# Altium footprint library APSS Prototype Parts.PcbLib: 96 footprints (part 6 of 6)
Each footprint in its own frame and in the unit in brackets; x right, y up, seen from the top. Pads: shape width x height; smd on the part's side, far side on the other; paste and mask are expansions set on the pad; w line width, h text height; cw(c..) or ccw(c..) is an arc to the next point about the centre after c.
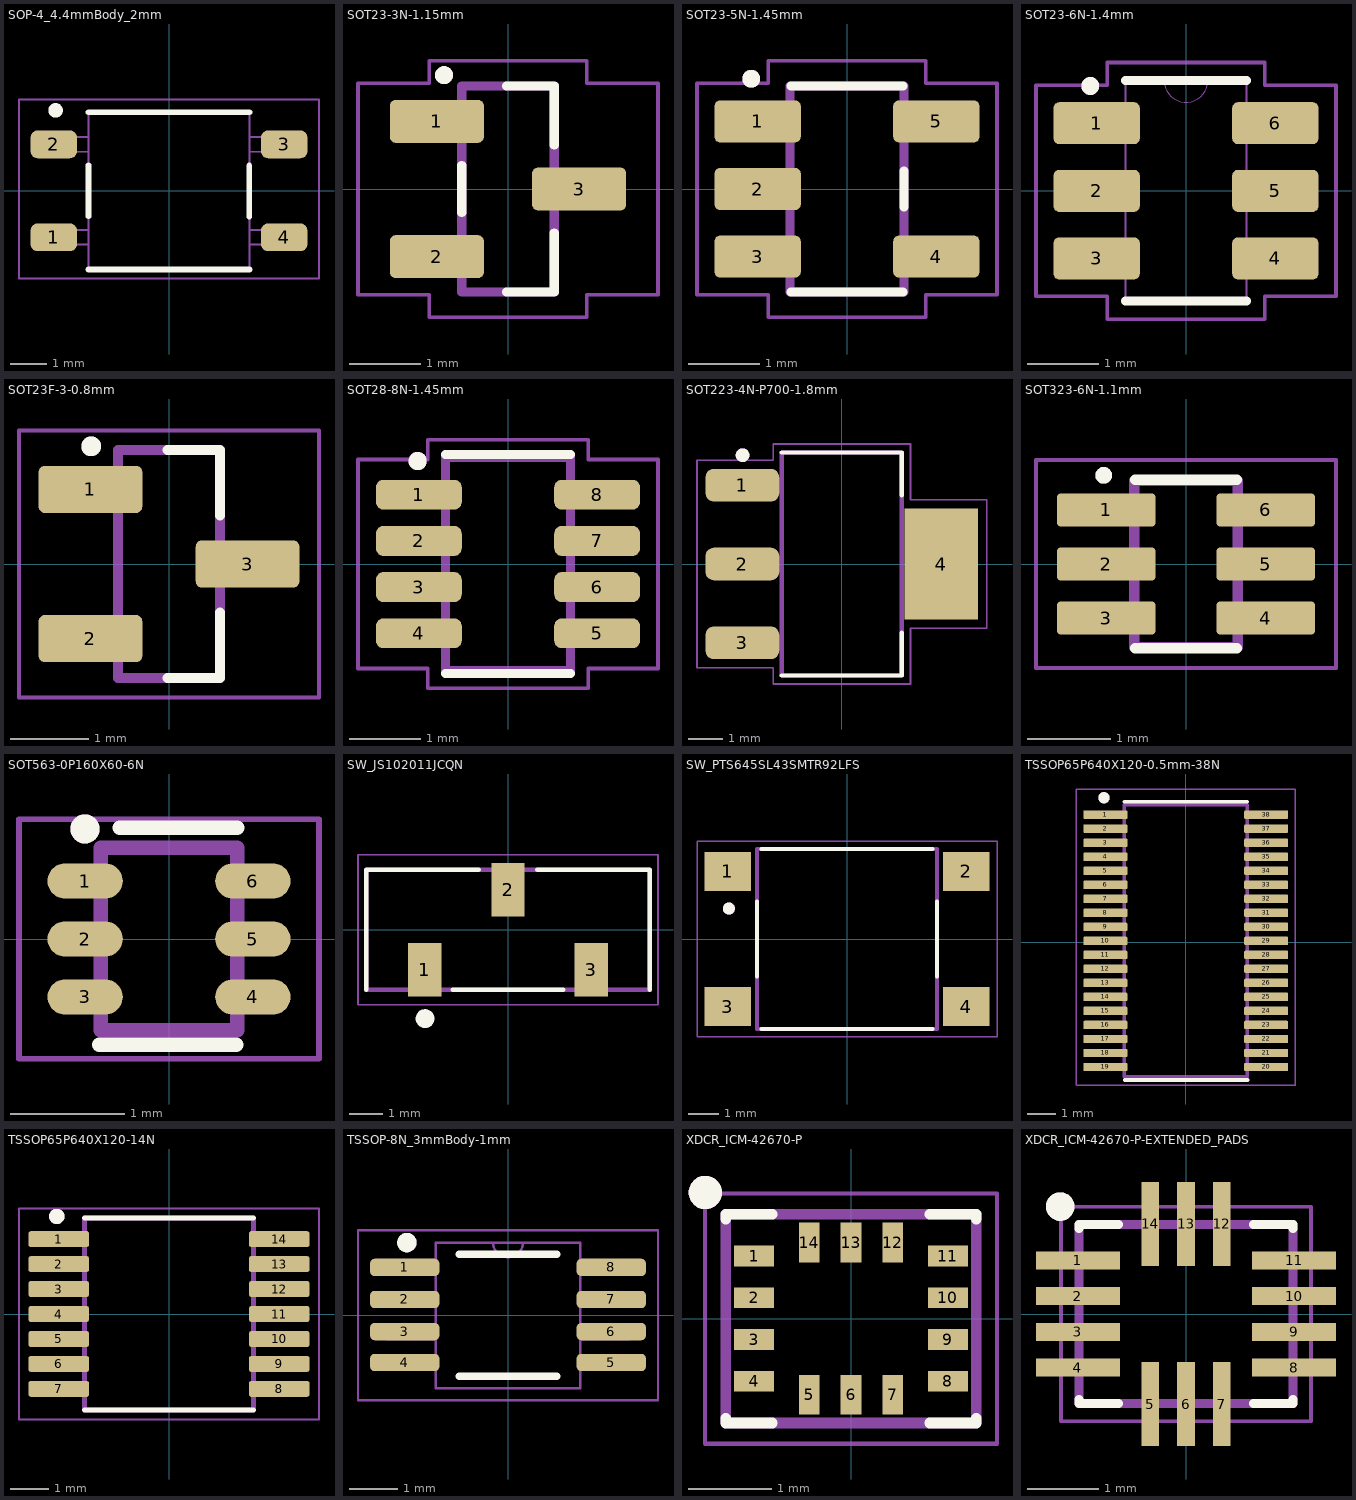
[diagram p5: the footprints below, top view; thin cyan lines are the x and y axes]

## SOP-4_4.4mmBody_2mm [mm] "2.54mm pitch, 4.4mm wide, 2mm tall"
height 2
pads (4):
  rrect50% 1.27x0.76 smd mask+0.051: 1(-3.15,-1.27) 2(-3.15,1.27) 3(3.15,1.27) 4(3.15,-1.27)
Top Overlay:
  circle w0.2: c-3.1,2.2 r0.1
  lines w0.152: -2.2,-2.15 2.2,-2.15 ; -2.2,-0.7 -2.2,0.7 ; -2.2,2.15 2.2,2.15 ; 2.196,-0.708 2.196,0.692
Mechanical 13:
  circle w0.051: c-3.1,2.2 r0.1
  lines w0.051: -2.199,-1.47 -3.399,-1.47 -3.399,-1.07 -2.199,-1.07 ; -2.199,1.07 -3.399,1.07 -3.399,1.47 -2.199,1.47 ; 2.199,-1.47 3.399,-1.47 3.399,-1.07 2.199,-1.07 ; 2.199,1.07 3.399,1.07 3.399,1.47 2.199,1.47 ; -2.2,-2.15 2.2,-2.15 2.2,2.15 -2.2,2.15 -2.2,-2.15
Mechanical 15:
  lines w0.05: -4.1,-2.4 4.1,-2.4 4.1,2.5 -4.1,2.5 -4.1,-2.4
3D body "4-SOP v4_stretched.stp": height 0, standoff 0, extent 0,0 0,0
3D body "4-SOP v4 stretched.step": height 2.12, standoff 0.01, extent -3.424,-2.044 3.401,2.044

## SOT23-3N-1.15mm [mm] "SOT23, 3-pin, 1.15mm high, nominal pads"
height 1.15
pads (3):
  rrect25% 1.32x0.6 smd mask+0.051: 1(-1,0.95) 2(-1,-0.95) 3(1,0)
Top Overlay:
  circle w0.2: c-0.9,1.6 r0.025
  lines w0.127: -0.65,-0.33 -0.65,0.33 ; -0.02,-1.45 0.65,-1.45 0.65,-0.62 ; -0.02,1.45 0.65,1.45 0.65,0.62
Mechanical 13:
  circle w0.2: c-0.9,1.6 r0.025
  lines w0.127: -0.65,-1.45 0.65,-1.45 0.65,1.45 -0.65,1.45 -0.65,-1.45
Mechanical 15:
  lines w0.05: -2.108,-1.483 -1.105,-1.483 -1.105,-1.803 1.105,-1.803 1.105,-1.483 2.108,-1.483 2.108,1.483 1.105,1.483 1.105,1.803 -1.105,1.803 -1.105,1.483 -2.108,1.483 -2.108,-1.483
3D body "SOT23.step": height 0.91, standoff -0.04, extent -1.194,-1.45 1.206,1.45

## SOT23-5N-1.45mm [mm] "SOT23, 5 pins, nominal pads, 1.45mm high"
height 1.45
pads (5):
  rrect25% 1.21x0.59 smd mask+0.051: 1(-1.255,0.95) 2(-1.255,0) 3(-1.255,-0.95) 4(1.255,-0.95) 5(1.255,0.95)
Top Overlay:
  circle w0.2: c-1.346,1.549 r0.025
  lines w0.127: -0.787,-1.45 0.787,-1.45 ; -0.787,1.45 0.787,1.45 ; 0.8,-0.254 0.8,0.254
Mechanical 13:
  circle w0.2: c-1.346,1.549 r0.025
  lines w0.127: -0.8,-1.45 0.8,-1.45 0.8,1.45 -0.8,1.45 -0.8,-1.45
Mechanical 15:
  lines w0.05: -2.108,-1.483 -1.105,-1.483 -1.105,-1.803 1.105,-1.803 1.105,-1.483 2.108,-1.483 2.108,1.483 1.105,1.483 1.105,1.803 -1.105,1.803 -1.105,1.483 -2.108,1.483 -2.108,-1.483
3D body "step_temp.STEP": height 1.45, standoff 0, extent -1.4,-1.45 1.4,1.45

## SOT23-6N-1.4mm [mm] "SOT23, 6 pins, nominal pads, 1.4mm high"
height 1.4
pads (6):
  rrect25% 1.21x0.59 smd mask+0.051: 1(-1.255,0.95) 2(-1.255,0) 3(-1.255,-0.95) 4(1.255,-0.95) 5(1.255,0) 6(1.255,0.95)
Top Overlay:
  circle w0.2: c-1.346,1.473 r0.025
  lines w0.127: -0.851,-1.549 0.851,-1.549 ; -0.851,1.549 0.851,1.549
Mechanical 13:
  circle w0.2: c-1.346,1.473 r0.025
  lines w0: -0.305,1.549 ccw(c0,1.549) 0.305,1.549
  lines w0.025: -1.499,-1.204 -1.499,-0.696 -0.851,-0.696 -0.851,-1.204 -1.499,-1.204 ; -1.499,-0.254 -1.499,0.254 -0.851,0.254 -0.851,-0.254 -1.499,-0.254 ; -1.499,0.696 -1.499,1.204 -0.851,1.204 -0.851,0.696 -1.499,0.696 ; -0.851,-1.549 0.851,-1.549 0.851,1.549 -0.851,1.549 -0.851,-1.549 ; 0.851,-1.204 0.851,-0.696 1.499,-0.696 1.499,-1.204 0.851,-1.204 ; 0.851,-0.254 0.851,0.254 1.499,0.254 1.499,-0.254 0.851,-0.254 ; 0.851,0.696 0.851,1.204 1.499,1.204 1.499,0.696 0.851,0.696
Mechanical 15:
  lines w0.05: -2.108,-1.483 -2.108,1.483 -1.105,1.483 -1.105,1.803 1.105,1.803 1.105,1.483 2.108,1.483 2.108,-1.483 1.105,-1.483 1.105,-1.803 -1.105,-1.803 -1.105,-1.483 -2.108,-1.483
3D body "SOT26_AP3445_DIO.step": height 1.4, standoff 0, extent -1.499,-1.549 1.499,1.549

## SOT23F-3-0.8mm [mm] "SOT23, 3-pin, flat leads, 0.8mm high"
height 0.8
pads (3):
  rrect25% 1.32x0.6 smd mask+0.051: 1(-1,0.95) 2(-1,-0.95) 3(1,0)
Top Overlay:
  circle w0.2: c-0.991,1.499 r0.025
  lines w0.127: -0.02,-1.45 0.65,-1.45 0.65,-0.62 ; -0.02,1.45 0.65,1.45 0.65,0.62
Mechanical 13:
  circle w0.2: c-0.991,1.499 r0.025
  lines w0.127: -0.65,-1.45 -0.65,1.45 0.65,1.45 0.65,-1.45 -0.65,-1.45
Mechanical 15:
  lines w0.05: -1.91,-1.7 1.91,-1.7 1.91,1.7 -1.91,1.7 -1.91,-1.7
3D body "SSM3J328R_LF.step": height 0.88, standoff 0, extent -1.2,-1.4 1.2,1.4

## SOT28-8N-1.45mm [mm] "SOT28, 8 pin, 1.45mm high, nominal pads"
height 1.45
pads (8):
  rrect50% 1.21x0.42 smd mask+0.051: 1(-1.255,0.975) 2(-1.255,0.325) 3(-1.255,-0.325) 4(-1.255,-0.975) 5(1.255,-0.975) 6(1.255,-0.325) 7(1.255,0.325) 8(1.255,0.975)
Top Overlay:
  circle w0.203: c-1.27,1.448 r0.025
  lines w0.127: -0.88,-1.54 0.88,-1.54 ; -0.88,1.54 0.88,1.54
Mechanical 13:
  circle w0.203: c-1.27,1.448 r0.025
  lines w0.127: -0.88,-1.5 0.88,-1.5 0.88,1.5 -0.88,1.5 -0.88,-1.5
Mechanical 15:
  lines w0.05: -2.11,-1.47 -2.11,1.47 -1.13,1.47 -1.13,1.75 1.13,1.75 1.13,1.47 2.11,1.47 2.11,-1.47 1.13,-1.47 1.13,-1.75 -1.13,-1.75 -1.13,-1.47 -2.11,-1.47
3D body "MAX9113EKA+T.STEP": height 1.45, standoff 0, extent -1.4,-1.45 1.4,1.45

## SOT223-4N-P700-1.8mm [mm] "SOT223, 4-pin, power pad, 1.8mm high,"
height 1.8
pads (4):
  rrect50% 2.15x0.95 smd: 1(-2.9,2.3) 2(-2.9,0) 3(-2.9,-2.3)
  rect 2.15x3.25 smd: 4(2.9,0)
Top Overlay:
  circle w0.2: c-2.896,3.175 r0.1
  lines w0.127: -1.75,-3.25 1.75,-3.25 1.75,-2.01 ; -1.75,3.25 1.75,3.25 1.75,2.01
Mechanical 13:
  circle w0.2: c-2.896,3.175 r0.1
  lines w0.127: -1.75,-3.25 -1.75,3.25 1.75,3.25 1.75,-3.25 -1.75,-3.25
Mechanical 15:
  lines w0.05: -4.225,-3.025 -4.225,3.025 -2,3.025 -2,3.5 2,3.5 2,1.875 4.225,1.875 4.225,-1.875 2,-1.875 2,-3.5 -2,-3.5 -2,-3.025 -4.225,-3.025
3D body "LM317EMPX_NOPB.step": height 1.8, standoff 0, extent -3.499,-3.25 3.499,3.25

## SOT323-6N-1.1mm [mm] "SOT323, 6 pins, nominal pads, 1.1mm high"
height 1.1
pads (6):
  rrect25% 1.19x0.4 smd mask+0.051: 1(-0.96,0.65) 2(-0.96,0) 3(-0.96,-0.65) 4(0.96,-0.65) 5(0.96,0) 6(0.96,0.65)
Top Overlay:
  circle w0.1: c-0.991,1.067 r0.051
  lines w0.127: -0.61,-1.016 0.61,-1.016 ; -0.61,1.016 0.61,1.016
Mechanical 13:
  circle w0.1: c-0.991,1.067 r0.051
  lines w0.127: -0.625,-1 0.625,-1 0.625,1 -0.625,1 -0.625,-1
Mechanical 15:
  lines w0.05: -1.805,-1.25 1.805,-1.25 1.805,1.25 -1.805,1.25 -1.805,-1.25
3D body "step_temp.STEP": height 1.1, standoff 0, extent -1.05,-1 1.05,1

## SOT563-0P160X60-6N [mm] "SOT563, 6 pin, 0.5mm pitch"
height 0.6
pads (6):
  oval 0.66x0.31 smd mask+0.051: 1(-0.735,0.508) 2(-0.735,0) 3(-0.735,-0.508) 4(0.735,-0.508) 5(0.735,0) 6(0.735,0.508)
Top Overlay:
  circle w0.203: c-0.737,0.965 r0.025
  lines w0.127: -0.61,-0.927 0.59,-0.927 ; -0.432,0.975 0.6,0.975
Mechanical 13:
  circle w0.203: c-0.737,0.965 r0.025
  lines w0.127: -0.6,-0.8 0.6,-0.8 0.6,0.8 -0.6,0.8 -0.6,-0.8
Mechanical 15:
  lines w0.05: -1.315,-1.05 -1.315,1.05 1.315,1.05 1.315,-1.05 -1.315,-1.05
3D body "TMP1075NDRLR.step": height 0.6, standoff 0, extent -0.8,-0.8 0.8,0.8

## SW_JS102011JCQN [mm]
pads (3):
  rect 1x1.6 smd: 1(-2.5,-1.2) 2(0,1.2) 3(2.5,-1.2)
Top Overlay:
  circle w0.279: c-2.489,-2.667 r0.141
  lines w0.127: -4.25,-1.8 -4.25,1.8 -0.88,1.8 ; -1.66,-1.8 1.66,-1.8 ; 0.88,1.8 4.25,1.8 4.25,-1.8
Mechanical 13:
  lines w0.127: -4.25,-1.8 -4.25,1.8 4.25,1.8 4.25,-1.8 -4.25,-1.8
Mechanical 15:
  lines w0.05: -4.5,-2.25 -4.5,2.25 4.5,2.25 4.5,-2.25 -4.5,-2.25
3D body "JS102011JCQN.step": height 5.35, standoff -0.05, extent -4.25,-2 4.25,2

## SW_PTS645SL43SMTR92LFS [mm]
height 4.4
pads (4):
  rect 1.55x1.3 smd: 1(-3.975,2.25) 2(3.975,2.25) 3(-3.975,-2.25) 4(3.975,-2.25)
Top Overlay:
  circle w0.2: c-3.937,1.016 r0.1
  lines w0.127: -3,-1.25 -3,1.25 ; -2.85,-3 2.85,-3 ; -2.85,3 2.85,3 ; 3,-1.25 3,1.25
Mechanical 13:
  circle w0.2: c-3.937,1.016 r0.1
  lines w0.127: -3,-3 3,-3 3,3 -3,3 -3,-3
Mechanical 15:
  lines w0.05: -5,-3.25 5,-3.25 5,3.25 -5,3.25 -5,-3.25
3D body "TS6-SMT_H-4.3.step": height 4.3, standoff 0, extent -4,-3 4,3

## TSSOP65P640X120-0.5mm-38N [mm] "TSSOP/MSOP/VSSOP, 0.5mm pitch, 4.4mm wide, 38 pin nominal, 1.2mm high"
height 1.2
pads (38):
  rrect25% 1.57x0.3 smd mask+0.051: 1(-2.87,4.55) 2(-2.87,4.05) 3(-2.87,3.55) 4(-2.87,3.05) 5(-2.87,2.55) 6(-2.87,2.05) 7(-2.87,1.55) 8(-2.87,1.05) 9(-2.87,0.55) 10(-2.87,0.05) 11(-2.87,-0.45) 12(-2.87,-0.95) 13(-2.87,-1.45) 14(-2.87,-1.95) 15(-2.87,-2.45) 16(-2.87,-2.95) 17(-2.87,-3.45) 18(-2.87,-3.95) 19(-2.87,-4.45) 20(2.87,-4.45) 21(2.87,-3.95) 22(2.87,-3.45) 23(2.87,-2.95) 24(2.87,-2.45) 25(2.87,-1.95) 26(2.87,-1.45) 27(2.87,-0.95) 28(2.87,-0.45) 29(2.87,0.05) 30(2.87,0.55) 31(2.87,1.05) 32(2.87,1.55) 33(2.87,2.05) 34(2.87,2.55) 35(2.87,3.05) 36(2.87,3.55) 37(2.87,4.05) 38(2.87,4.55)
Top Overlay:
  circle w0.2: c-2.921,5.156 r0.1
  lines w0.127: -2.2,5.015 2.2,5.015 ; -2.184,-4.913 2.216,-4.913
Mechanical 13:
  circle w0.2: c-2.921,5.156 r0.1
  lines w0.127: -2.2,-4.801 2.2,-4.801 2.2,4.902 -2.2,4.902 -2.2,-4.801
Mechanical 15:
  lines w0.05: -3.905,-5.101 -3.905,5.468 3.905,5.468 3.905,-5.101 ; -3.889,-5.101 3.921,-5.101
3D body "TSSOP-38 0.50p 4.4mm Pad.step": height 1, standoff 0, extent -3.15,-4.799 3.15,4.901

## TSSOP65P640X120-14N [mm] "TSSOP/MSOP/VSSOP, 4.4mm wide, 14 pin nominal, 1.2mm high"
height 1.2
pads (14):
  rrect25% 1.57x0.41 smd mask+0.051: 1(-2.87,1.95) 2(-2.87,1.3) 3(-2.87,0.65) 4(-2.87,0) 5(-2.87,-0.65) 6(-2.87,-1.3) 7(-2.87,-1.95) 8(2.87,-1.95) 9(2.87,-1.3) 10(2.87,-0.65) 11(2.87,0) 12(2.87,0.65) 13(2.87,1.3) 14(2.87,1.95)
Top Overlay:
  circle w0.2: c-2.921,2.54 r0.1
  lines w0.127: -2.2,-2.5 2.2,-2.5 ; -2.2,2.5 2.2,2.5
Mechanical 13:
  circle w0.2: c-2.921,2.54 r0.1
  lines w0.127: -2.2,-2.5 -2.2,2.5 2.2,2.5 2.2,-2.5 -2.2,-2.5
Mechanical 15:
  lines w0.05: -3.905,-2.75 -3.905,2.75 3.905,2.75 3.905,-2.75 -3.905,-2.75
3D body "TLV9004IPWR.step": height 1.2, standoff 0, extent -3.2,-2.5 3.2,2.5

## TSSOP-8N_3mmBody-1mm [mil] "TSSOP, 0.65mm pitch, 3mm body, 1mm high, nominal pads"
height 39.37
pads (8):
  rrect50% 56x14 smd mask+2: 1(-83.61,38.62) 2(-83.61,12.62) 3(-83.61,-13.38) 4(-83.61,-38.38) 5(83.61,-38.38) 6(83.61,-13.38) 7(83.61,12.62) 8(83.61,38.62)
Top Overlay:
  circle w7.87: c-81.89,58.66 r3.94
  lines w6: -39.37,-49.41 39.37,-49.41 ; -39.37,49.41 39.37,49.41
Mechanical 13:
  circle w7.87: c-81.89,58.66 r3.94
  lines w2: -12,58.66 ccw(c0,58.66) 12,58.66 ; -97.61,-44.38 -97.61,-32.38 ; -97.61,-44.38 -58.61,-44.38 ; -97.61,-44.38 -97.61,-32.38 ; -97.61,-44.38 -58.61,-44.38 ; -97.61,-32.38 -58.61,-32.38 ; -97.61,-32.38 -58.61,-32.38 ; -97.61,-19.38 -97.61,-7.38 ; -97.61,-19.38 -58.61,-19.38 ; -97.61,-19.38 -97.61,-7.38 ; -97.61,-19.38 -58.61,-19.38 ; -97.61,-7.38 -58.61,-7.38 ; -97.61,-7.38 -58.61,-7.38 ; -97.61,6.62 -97.61,18.62 ; -97.61,6.62 -58.61,6.62 ; -97.61,6.62 -97.61,18.62 ; -97.61,6.62 -58.61,6.62 ; -97.61,18.62 -58.61,18.62 ; -97.61,18.62 -58.61,18.62 ; -97.61,32.62 -97.61,43.62 ; -97.61,32.62 -58.61,32.62 ; -97.61,32.62 -97.61,43.62 ; -97.61,32.62 -58.61,32.62 ; -97.61,43.62 -58.61,43.62 ; -97.61,43.62 -58.61,43.62 ; -58.61,-44.38 -58.61,-32.38 ; -58.61,-44.38 -58.61,-32.38 ; -58.61,-19.38 -58.61,-7.38 ; -58.61,-19.38 -58.61,-7.38 ; -58.61,6.62 -58.61,18.62 ; -58.61,6.62 -58.61,18.62 ; -58.61,32.62 -58.61,43.62 ; -58.61,32.62 -58.61,43.62 ; 58.61,-44.38 58.61,-32.38 ; 58.61,-44.38 97.61,-44.38 ; 58.61,-44.38 58.61,-32.38 ; 58.61,-44.38 97.61,-44.38 ; 58.61,-32.38 97.61,-32.38 ; 58.61,-32.38 97.61,-32.38 ; 58.61,-19.38 58.61,-7.38 ; 58.61,-19.38 97.61,-19.38 ; 58.61,-19.38 58.61,-7.38 ; 58.61,-19.38 97.61,-19.38 ; 58.61,-7.38 97.61,-7.38 ; 58.61,-7.38 97.61,-7.38 ; 58.61,6.62 58.61,18.62 ; 58.61,6.62 97.61,6.62 ; 58.61,6.62 58.61,18.62 ; 58.61,6.62 97.61,6.62 ; 58.61,18.62 97.61,18.62 ; 58.61,18.62 97.61,18.62 ; 58.61,32.62 58.61,43.62 ; 58.61,32.62 97.61,32.62 ; 58.61,32.62 58.61,43.62 ; 58.61,32.62 97.61,32.62 ; 58.61,43.62 97.61,43.62 ; 58.61,43.62 97.61,43.62 ; 97.61,-44.38 97.61,-32.38 ; 97.61,-44.38 97.61,-32.38 ; 97.61,-19.38 97.61,-7.38 ; 97.61,-19.38 97.61,-7.38 ; 97.61,6.62 97.61,18.62 ; 97.61,6.62 97.61,18.62 ; 97.61,32.62 97.61,43.62 ; 97.61,32.62 97.61,43.62 ; -58.61,-59.06 -58.61,58.66 -21.28,58.66 21.28,58.66 58.61,58.66 58.61,-59.06 -58.61,-59.06
Mechanical 15:
  lines w1.97: -121.42,-68.9 -121.42,68.5 121.42,68.5 121.42,-68.9 -121.42,-68.9
3D body "ADA4096-2ARMZ-RL.STEP": height 43.31, standoff 0, extent -96.46,-59.06 96.45,59.05

## XDCR_ICM-42670-P [mm]
height 0.81
pads (14):
  rect 0.475x0.25 smd paste-1 mask+0.05: 1(-1.162,0.75) 2(-1.162,0.25) 3(-1.162,-0.25) 4(-1.162,-0.75) 8(1.162,-0.75) 9(1.162,-0.25) 10(1.162,0.25) 11(1.162,0.75)
  rect 0.25x0.475 smd paste-1 mask+0.05: 5(-0.5,-0.913) 6(0,-0.913) 7(0.5,-0.913) 12(0.5,0.913) 13(0,0.913) 14(-0.5,0.913)
Top Overlay:
  circle w0.2: c-1.746,1.512 r0.1
  lines w0.127: -1.5,-1.195 -1.5,-1.25 -0.945,-1.25 ; -1.5,1.195 -1.5,1.25 -0.945,1.25 ; 0.945,-1.25 1.5,-1.25 1.5,-1.195 ; 0.945,1.25 1.5,1.25 1.5,1.195
Top Paste:
  region: -0.381,-1.138 -0.619,-1.138 -0.619,-0.687 -0.381,-0.687
  region: 0.619,-1.138 0.381,-1.138 0.381,-0.687 0.619,-0.687
  region: 0.119,-1.138 -0.119,-1.138 -0.119,-0.687 0.119,-0.687
  region: -0.381,0.687 -0.619,0.687 -0.619,1.138 -0.381,1.138
  region: 0.619,0.687 0.381,0.687 0.381,1.138 0.619,1.138
  region: 0.119,0.687 -0.119,0.687 -0.119,1.138 0.119,1.138
  region: 1.388,0.631 0.937,0.631 0.937,0.869 1.388,0.869
  region: 1.388,-0.869 0.937,-0.869 0.937,-0.631 1.388,-0.631
  region: 1.388,-0.369 0.937,-0.369 0.937,-0.131 1.388,-0.131
  region: 1.388,0.131 0.937,0.131 0.937,0.369 1.388,0.369
  region: -0.937,0.631 -1.388,0.631 -1.388,0.869 -0.937,0.869
  region: -0.937,-0.869 -1.388,-0.869 -1.388,-0.631 -0.937,-0.631
  region: -0.937,-0.369 -1.388,-0.369 -1.388,-0.131 -0.937,-0.131
  region: -0.937,0.131 -1.388,0.131 -1.388,0.369 -0.937,0.369
Mechanical 13:
  circle w0.2: c-1.746,1.512 r0.1
  lines w0.127: -1.5,-1.25 -1.5,1.25 1.5,1.25 1.5,-1.25 -1.5,-1.25
Mechanical 15:
  lines w0.05: -1.75,-1.5 1.75,-1.5 1.75,1.5 -1.75,1.5 -1.75,-1.5
3D body "step_temp.STEP": height 0.81, standoff 0, extent -1.5,-1.25 1.5,1.25

## XDCR_ICM-42670-P-EXTENDED_PADS [mm]
height 0.81
pads (14):
  rect 1.175x0.25 smd paste-1 mask+0.05: 1(-1.512,0.75) 2(-1.512,0.25) 3(-1.512,-0.25) 4(-1.512,-0.75) 8(1.512,-0.75) 9(1.512,-0.25) 10(1.512,0.25) 11(1.512,0.75)
  rect 0.25x1.175 smd paste-1 mask+0.05: 5(-0.5,-1.262) 6(0,-1.262) 7(0.5,-1.262) 12(0.5,1.262) 13(0,1.262) 14(-0.5,1.262)
Top Overlay:
  circle w0.2: c-1.761,1.504 r0.1
  lines w0.127: -1.5,-1.195 -1.5,-1.25 -0.945,-1.25 ; -1.5,1.195 -1.5,1.25 -0.945,1.25 ; 0.945,-1.25 1.5,-1.25 1.5,-1.195 ; 0.945,1.25 1.5,1.25 1.5,1.195
Top Paste:
  region: -0.381,-1.138 -0.619,-1.138 -0.619,-0.687 -0.381,-0.687
  region: 0.619,-1.138 0.381,-1.138 0.381,-0.687 0.619,-0.687
  region: 0.119,-1.138 -0.119,-1.138 -0.119,-0.687 0.119,-0.687
  region: -0.381,0.687 -0.619,0.687 -0.619,1.138 -0.381,1.138
  region: 0.619,0.687 0.381,0.687 0.381,1.138 0.619,1.138
  region: 0.119,0.687 -0.119,0.687 -0.119,1.138 0.119,1.138
  region: 1.388,0.631 0.937,0.631 0.937,0.869 1.388,0.869
  region: 1.388,-0.869 0.937,-0.869 0.937,-0.631 1.388,-0.631
  region: 1.388,-0.369 0.937,-0.369 0.937,-0.131 1.388,-0.131
  region: 1.388,0.131 0.937,0.131 0.937,0.369 1.388,0.369
  region: -0.937,0.631 -1.388,0.631 -1.388,0.869 -0.937,0.869
  region: -0.937,-0.869 -1.388,-0.869 -1.388,-0.631 -0.937,-0.631
  region: -0.937,-0.369 -1.388,-0.369 -1.388,-0.131 -0.937,-0.131
  region: -0.937,0.131 -1.388,0.131 -1.388,0.369 -0.937,0.369
Mechanical 13:
  circle w0.2: c-1.761,1.504 r0.1
  lines w0.127: -1.5,-1.25 -1.5,1.25 1.5,1.25 1.5,-1.25 -1.5,-1.25
Mechanical 15:
  lines w0.05: -1.75,-1.5 1.75,-1.5 1.75,1.5 -1.75,1.5 -1.75,-1.5
3D body "step_temp.STEP": height 0.81, standoff 0, extent -1.5,-1.25 1.5,1.25